# Altium footprint library moma_altium_PCBlibrary.PcbLib: 28 footprints (part 2 of 2)
Each footprint in its own frame and in the unit in brackets; x right, y up, seen from the top. Pads: shape width x height; smd on the part's side, far side on the other; paste and mask are expansions set on the pad; w line width, h text height; cw(c..) or ccw(c..) is an arc to the next point about the centre after c.
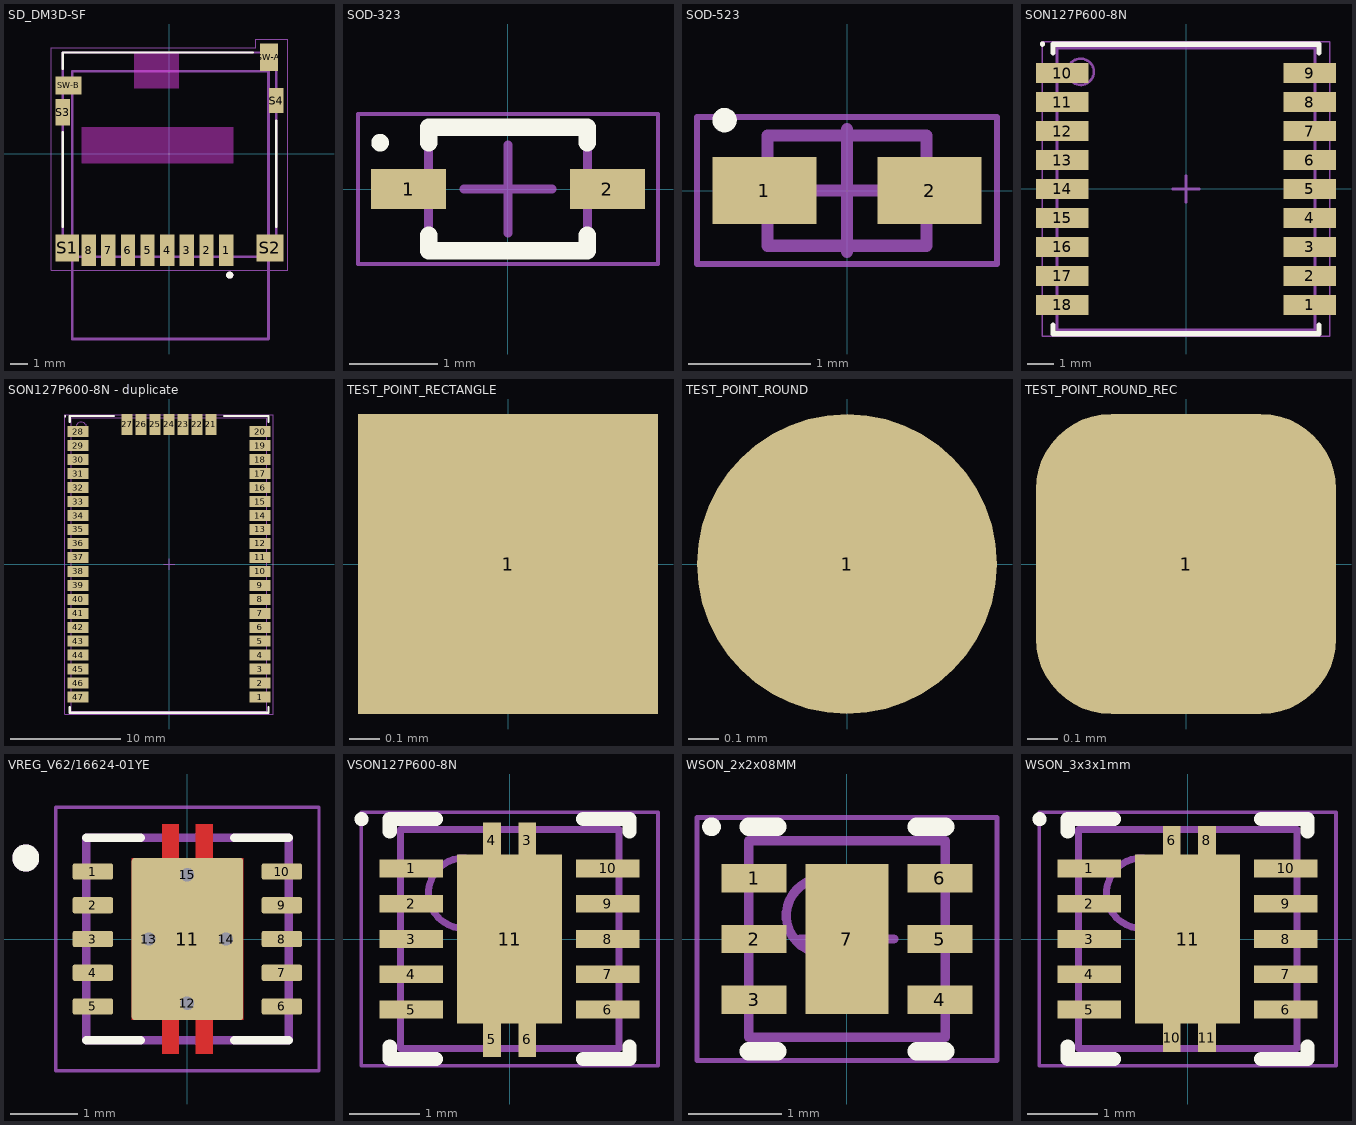
[diagram p1: the footprints below, top view; thin cyan lines are the x and y axes]

## SD_DM3D-SF [mm]
pads (14):
  rect 0.8x1.75 smd: 1(3.175,-5.4) 2(2.075,-5.4) 3(0.975,-5.4) 4(-0.125,-5.4) 5(-1.225,-5.4) 6(-2.325,-5.4) 7(-3.425,-5.4) 8(-4.525,-5.4)
  rect 1.3x1.5 smd: S1(-5.725,-5.275)
  rect 1.5x1.5 smd: S2(5.625,-5.275)
  rect 0.8x1.5 smd: S3(-5.975,2.325)
  rect 0.8x1.4 smd: S4(5.975,2.975)
  rect 1x1.55 smd: SW-A(5.575,5.4)
  rect 1.45x1 smd: SW-B(-5.65,3.825)
Top Overlay:
  circle w0.2: c3.375,-6.8 r0.1
  lines w0.127: -5.975,-4.1 -5.975,1.2 ; -5.975,4.75 -5.975,5.675 4.675,5.675 ; 5.975,-4.1 5.975,1.85
Keep-Out Layer:
  region: 0.525,3.675 -1.975,3.675 -1.975,5.675 0.525,5.675
  region: 3.575,-0.525 -4.925,-0.525 -4.925,1.475 3.575,1.475
  region: 3.575,-0.525 -4.925,-0.525 -4.925,1.475 3.575,1.475
  region: 0.525,3.675 -1.975,3.675 -1.975,5.675 0.525,5.675
Mechanical 1:
  lines w0.15: -5.45,-10.375 ccw(c-5.45,-10.375) -5.45,-10.375 ; -5.45,-10.375 -5.45,4.625 5.55,4.625 5.55,-10.375 -5.45,-10.375
  text "SD card" at -5.196,-10.121 h1.52
Mechanical 13:
  circle w0.2: c3.375,-6.8 r0.1
  lines w0.127: -5.975,-5.775 5.975,-5.775 5.975,5.675 -5.975,5.675 -5.975,-5.775
Mechanical 15:
  lines w0.05: -6.625,-6.525 -6.625,5.925 4.825,5.925 4.825,6.425 6.625,6.425 6.625,-6.525 -6.625,-6.525
3D body "DM3D-SF.stp": height 1.55, standoff 0, extent -5.975,-5.8 5.975,5.65

## SOD-323 [mm] "Package SOD323"
height 1.1
pads (2):
  rect 0.85x0.45 smd: 1(-1.125,0) 2(1.125,0)
Top Overlay:
  circle w0.1: c-1.45,0.525 r0.05
  lines w0.2: -0.9,-0.525 -0.9,-0.7 0.9,-0.7 0.9,-0.525 ; -0.9,0.525 -0.9,0.7 0.9,0.7 0.9,0.525
Mechanical 13:
  lines w0.1: -0.9,-0.675 -0.9,0.675 0.9,0.675 0.9,-0.675 -0.9,-0.675
Mechanical 15:
  lines w0.05: -1.7,-0.85 -1.7,0.85 1.7,0.85 1.7,-0.85 -1.7,-0.85
  lines w0.1: -0.5,0 0.5,0 ; 0,-0.5 0,0.5
3D body "SOD323.step": height 1.1, standoff 0, extent -1.25,-0.675 1.25,0.675

## SOD-523 [mm] "SODFL, 2-Leads, Body 0.80x1.60mm, IPC Medium Density"
height 0.7
pads (2):
  rect 0.85x0.55 smd: 1(-0.675,0) 2(0.675,0)
Top Overlay:
  circle w0.1: c-1,0.575 r0.05
Mechanical 13:
  lines w0.1: -0.65,-0.45 0.65,-0.45 0.65,0.45 -0.65,0.45 -0.65,-0.45
Mechanical 15:
  lines w0.05: -1.225,-0.6 1.225,-0.6 1.225,0.6 -1.225,0.6 -1.225,-0.6
  lines w0.1: -0.5,0 0.5,0 ; 0,-0.5 0,0.5
3D body "SOD-523.step": height 0.7, standoff 0, extent -0.8,-0.45 0.8,0.45

## SON127P600-8N [mm] "SON 18 LEAD FOR UBLOX MAX-M10s"
height 2.7
pads (18):
  rect 2x0.75 smd: 1(4.695,-4.4) 2(4.695,-3.3) 3(4.695,-2.2) 4(4.695,-1.1) 5(4.695,0) 6(4.695,1.1) 7(4.695,2.2) 8(4.695,3.3) 9(4.695,4.4) 10(-4.695,4.4) 11(-4.695,3.3) 12(-4.695,2.2) 13(-4.695,1.1) 14(-4.695,0) 15(-4.695,-1.1) 16(-4.695,-2.2) 17(-4.695,-3.3) 18(-4.695,-4.4)
Top Overlay:
  circle w0.1: c-5.45,5.5 r0.05
  lines w0.2: -5.05,-5.175 -5.05,-5.5 5.05,-5.5 5.05,-5.175 ; -5.05,5.175 -5.05,5.5 5.05,5.5 5.05,5.175
Mechanical 13:
  circle w0.1: c-4,4.45 r0.5
  lines w0.1: -4.9,-5.35 4.9,-5.35 4.9,5.35 -4.9,5.35 -4.9,-5.35
Mechanical 15:
  lines w0.05: -5.455,-5.6 5.455,-5.6 5.455,5.6 -5.455,5.6 -5.455,-5.6
  lines w0.1: -0.5,0 0.5,0 ; 0,-0.5 0,0.5
3D body "MAX-M10S-00B.STEP": height 2.7, standoff 0, extent -4.85,-5.35 4.85,5.05

## SON127P600-8N - duplicate [mm] "SON 47-lead package for LoRa chip RN2483"
height 3.34
pads (47):
  rect 1.9x1 smd: 1(8.28,-12.065) 2(8.28,-10.795) 3(8.28,-9.525) 4(8.28,-8.255) 5(8.28,-6.985) 6(8.28,-5.715) 7(8.28,-4.445) 8(8.28,-3.175) 9(8.28,-1.905) 10(8.28,-0.635) 11(8.28,0.635) 12(8.28,1.905) 13(8.28,3.175) 14(8.28,4.445) 15(8.28,5.715) 16(8.28,6.985) 17(8.28,8.255) 18(8.28,9.525) 19(8.28,10.795) 20(8.28,12.065) 28(-8.28,12.065) 29(-8.28,10.795) 30(-8.28,9.525) 31(-8.28,8.255) 32(-8.28,6.985) 33(-8.28,5.715) 34(-8.28,4.445) 35(-8.28,3.175) 36(-8.28,1.905) 37(-8.28,0.635) 38(-8.28,-0.635) 39(-8.28,-1.905) 40(-8.28,-3.175) 41(-8.28,-4.445) 42(-8.28,-5.715) 43(-8.28,-6.985) 44(-8.28,-8.255) 45(-8.28,-9.525) 46(-8.28,-10.795) 47(-8.28,-12.065)
  rect 1x1.9 smd: 21(3.81,12.725) 22(2.54,12.725) 23(1.27,12.725) 24(0,12.725) 25(-1.27,12.725) 26(-2.54,12.725) 27(-3.81,12.725)
Top Overlay:
  circle w0.1: c-9.44,13.485 r0.05
  lines w0.2: -9.04,-12.965 -9.04,-13.485 9.04,-13.485 9.04,-12.965 ; -9.04,12.965 -9.04,13.485 -5,13.485 ; 5,13.485 9.04,13.485 9.04,12.965
Mechanical 13:
  circle w0.1: c-7.99,12.435 r0.5
  lines w0.1: -8.89,-13.335 8.89,-13.335 8.89,13.335 -8.89,13.335 -8.89,-13.335
Mechanical 15:
  lines w0.05: -9.475,-13.6 9.475,-13.6 9.475,13.6 -9.475,13.6 -9.475,-13.6
  lines w0.1: -0.5,0 0.5,0 ; 0,-0.5 0,0.5
3D body "RN2483A-I_RM104.stp": height 3.35, standoff 0, extent -8.941,-13.335 8.941,13.386

## TEST_POINT_RECTANGLE [mm]
pads (1):
  rect 1x1 smd: 1(0,0)

## TEST_POINT_ROUND [mm]
pads (1):
  round 1 smd: 1(0,0)

## TEST_POINT_ROUND_REC [mm]
pads (1):
  rrect50% 1x1 smd: 1(0,0)

## VREG_V62/16624-01YE [mm]
pads (15):
  rrect25% 0.6x0.24 smd mask+0: 1(-1.4,1) 2(-1.4,0.5) 3(-1.4,0) 4(-1.4,-0.5) 5(-1.4,-1) 6(1.4,-1) 7(1.4,-0.5) 8(1.4,0) 9(1.4,0.5) 10(1.4,1)
  rrect5% 1.65x2.4 smd paste-2 mask+0: 11(0,0)
  round 0.3 hole 0.2 mask+0: 12(0,-0.95) 13(-0.575,0) 14(0.575,0) 15(0,0.95)
Top Layer:
  region: 0.375,1.2 0.825,1.2 0.825,-1.2 0.375,-1.2 0.375,-1.7 0.125,-1.7 0.125,-1.2 -0.125,-1.2 -0.125,-1.7 -0.375,-1.7 -0.375,-1.2 -0.825,-1.2 -0.825,1.2 -0.375,1.2 -0.375,1.7 -0.125,1.7 -0.125,1.2 0.125,1.2 0.125,1.7 0.375,1.7
Top Overlay:
  circle w0.2: c-2.395,1.2 r0.1
  lines w0.127: -1.5,-1.5 -0.695,-1.5 ; -1.5,1.5 -0.695,1.5 ; 0.695,-1.5 1.5,-1.5 ; 0.695,1.5 1.5,1.5
Top Paste:
  region: 0.75,0.1 -0.75,0.1 -0.75,1.16 0.75,1.16
  region: 0.75,-1.16 -0.75,-1.16 -0.75,-0.1 0.75,-0.1
  region: 0.375,1.36 0.125,1.36 0.125,1.7 0.375,1.7
  region: -0.125,1.36 -0.375,1.36 -0.375,1.7 -0.125,1.7
  region: 0.375,-1.7 0.125,-1.7 0.125,-1.36 0.375,-1.36
  region: -0.125,-1.7 -0.375,-1.7 -0.375,-1.36 -0.125,-1.36
Top Solder:
  region: 0.445,1.27 0.895,1.27 0.895,-1.27 0.445,-1.27 0.445,-1.77 0.055,-1.77 0.055,-1.27 -0.055,-1.27 -0.055,-1.77 -0.445,-1.77 -0.445,-1.27 -0.895,-1.27 -0.895,1.27 -0.445,1.27 -0.445,1.77 -0.055,1.77 -0.055,1.27 0.055,1.27 0.055,1.77 0.445,1.77
  region: 1.77,0.81 1.03,0.81 1.03,1.19 1.77,1.19
  region: 1.77,0.31 1.03,0.31 1.03,0.69 1.77,0.69
  region: 1.77,-0.19 1.03,-0.19 1.03,0.19 1.77,0.19
  region: 1.77,-0.69 1.03,-0.69 1.03,-0.31 1.77,-0.31
  region: 1.77,-1.19 1.03,-1.19 1.03,-0.81 1.77,-0.81
  region: -1.03,-1.19 -1.77,-1.19 -1.77,-0.81 -1.03,-0.81
  region: -1.03,-0.69 -1.77,-0.69 -1.77,-0.31 -1.03,-0.31
  region: -1.03,-0.19 -1.77,-0.19 -1.77,0.19 -1.03,0.19
  region: -1.03,0.31 -1.77,0.31 -1.77,0.69 -1.03,0.69
  region: -1.03,0.81 -1.77,0.81 -1.77,1.19 -1.03,1.19
Mechanical 13:
  circle w0.2: c-2.395,1.2 r0.1
  lines w0.127: -1.5,-1.5 -1.5,1.5 1.5,1.5 1.5,-1.5 -1.5,-1.5
Mechanical 15:
  lines w0.05: -1.95,-1.95 -1.95,1.95 1.95,1.95 1.95,-1.95 -1.95,-1.95
3D body "step_temp.STEP": height 1, standoff 0, extent -1.5,-1.5 1.5,1.5

## VSON127P600-8N [mm]
height 1
pads (15):
  rect 0.9x0.25 smd: 1(-1.395,1) 2(-1.395,0.5) 3(-1.395,0) 4(-1.395,-0.5) 5(-1.395,-1) 6(1.395,-1) 7(1.395,-0.5) 8(1.395,0) 9(1.395,0.5) 10(1.395,1)
  rect 0.25x0.5 smd: 3(0.25,1.4) 4(-0.25,1.4) 5(-0.25,-1.425) 6(0.25,-1.425)
  rect 1.49x2.4 smd: 11(0,0)
Top Overlay:
  circle w0.1: c-2.1,1.7 r0.05
  lines w0.2: -1.7,-1.525 -1.7,-1.7 -1.045,-1.7 ; -1.7,1.525 -1.7,1.7 -1.045,1.7 ; 1.045,-1.7 1.7,-1.7 1.7,-1.525 ; 1.045,1.7 1.7,1.7 1.7,1.525
Mechanical 13:
  circle w0.1: c-0.65,0.65 r0.5
  lines w0.1: -1.55,-1.55 1.55,-1.55 1.55,1.55 -1.55,1.55 -1.55,-1.55
Mechanical 15:
  lines w0.05: -2.105,-1.8 2.105,-1.8 2.105,1.8 -2.105,1.8 -2.105,-1.8
  lines w0.1: -0.5,0 0.5,0 ; 0,-0.5 0,0.5
3D body "VSON127P600-8N.step": height 1, standoff 0, extent -1.551,-1.55 1.551,1.55

## WSON_2x2x08MM [mm] "SON, 6-Leads, Body 2.00x2.00mm, Pitch 0.65mm, Thermal Pad 1.60x0.89mm, IPC Medium Density"
height 0.8
pads (7):
  rect 0.7x0.3 smd: 1(-0.995,0.65) 2(-0.995,0) 3(-0.995,-0.65) 4(0.995,-0.65) 5(0.995,0) 6(0.995,0.65)
  rect 0.89x1.6 smd: 7(0,0)
Top Overlay:
  circle w0.1: c-1.45,1.2 r0.05
  lines w0.2: -1.05,-1.2 -0.745,-1.2 ; -1.05,1.2 -0.745,1.2 ; 0.745,-1.2 1.05,-1.2 ; 0.745,1.2 1.05,1.2
Mechanical 13:
  circle w0.1: c-0.25,0.25 r0.4
  lines w0.1: -1.05,-1.05 1.05,-1.05 1.05,1.05 -1.05,1.05 -1.05,-1.05
Mechanical 15:
  lines w0.05: -1.605,-1.3 1.605,-1.3 1.605,1.3 -1.605,1.3 -1.605,-1.3
  lines w0.1: -0.5,0 0.5,0 ; 0,-0.5 0,0.5
3D body "WSON_2x2x08MM.step": height 0.8, standoff 0, extent -1.13,-1.05 1.13,1.05

## WSON_3x3x1mm [mm] "SON, 10-Leads, Body 3.00x3.00mm, Pitch 0.50mm, Thermal Pad 2.40x1.49mm, IPC Medium Density"
height 1
pads (15):
  rect 0.9x0.25 smd: 1(-1.395,1) 2(-1.395,0.5) 3(-1.395,0) 4(-1.395,-0.5) 5(-1.395,-1) 6(1.395,-1) 7(1.395,-0.5) 8(1.395,0) 9(1.395,0.5) 10(1.395,1)
  rect 0.25x0.4 smd: 6(-0.225,1.4) 8(0.275,1.4) 10(-0.225,-1.4) 11(0.275,-1.4)
  rect 1.49x2.4 smd: 11(0,0)
Top Overlay:
  circle w0.1: c-2.1,1.7 r0.05
  lines w0.2: -1.7,-1.525 -1.7,-1.7 -1.045,-1.7 ; -1.7,1.525 -1.7,1.7 -1.045,1.7 ; 1.045,-1.7 1.7,-1.7 1.7,-1.525 ; 1.045,1.7 1.7,1.7 1.7,1.525
Mechanical 13:
  circle w0.1: c-0.65,0.65 r0.5
  lines w0.1: -1.55,-1.55 1.55,-1.55 1.55,1.55 -1.55,1.55 -1.55,-1.55
Mechanical 15:
  lines w0.05: -2.105,-1.8 2.105,-1.8 2.105,1.8 -2.105,1.8 -2.105,-1.8
  lines w0.1: -0.5,0 0.5,0 ; 0,-0.5 0,0.5
3D body "WSON3x3x1mm.step": height 1, standoff 0, extent -1.6,-1.55 1.6,1.55